# EAGLE library part TPS61200 (library CH_TI)
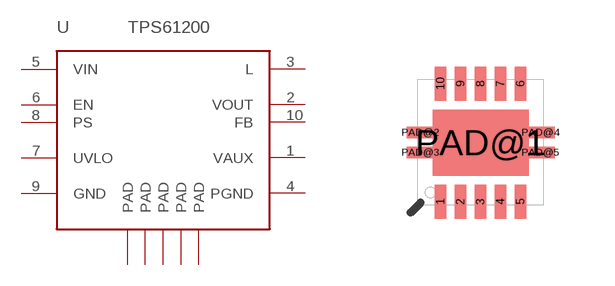
[diagram p0: symbol with the pads of QFN_10_PAD; footprint QFN_10_PAD]

Designator prefix -

## TPS61200  [QFN_10_PAD]
1  VAUX  pas
2  VOUT  pas
3  L  pas
4  PGND  sup
5  VIN  sup
6  EN  in
7  UVLO  pas
8  PS  in
9  GND  sup
10  FB  pas
PAD@1  PAD  sup
PAD@2  PAD  sup
PAD@3  PAD  sup
PAD@4  PAD  sup
PAD@5  PAD  sup

## Footprint QFN_10_PAD (pad centres in mm)
smd 0.297 x 0.85: 1 -1,-1.475; 2 -0.5,-1.475; 3 0,-1.475; 4 0.5,-1.475; 5 1,-1.475; 6 1,1.475; 7 0.5,1.475; 8 0,1.475; 9 -0.5,1.475; 10 -1,1.475
smd 2.4 x 1.65: PAD@1 0,0
smd 0.7 x 0.28: PAD@2 -1.5,0.25; PAD@3 -1.5,-0.25; PAD@4 1.5,0.25; PAD@5 1.5,-0.25